# EAGLE library part MOLEX430450613 (library ACB)
Micro-Fit 3.0 Vertical Header 2x3 http://www.molex.com/molex/products/datasheet.jsp?part=active/0430450613_PCB_HEADERS.xml Hořa 7.6.2017
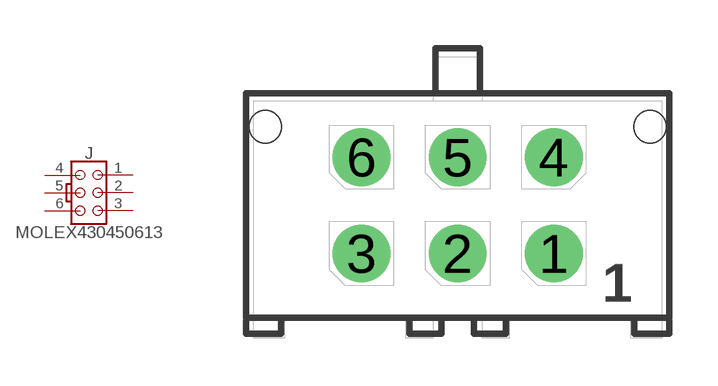
[diagram p2: symbol with the pads of MOLEX430450613; footprint MOLEX430450613]

Designator prefix J

## MOLEX430450613  [MOLEX430450613]
1  1
2  2
3  3
4  4
5  5
6  6

## Footprint MOLEX430450613 (pad centres in mm)
Micro-Fit 3.0 Vertical Header 2x3 http://www.molex.com/molex/products/datasheet.jsp?part=active/0430450613_PCB_HEADERS.xml Hořa 7.6.2017
drill 1.1 pad 1.8: 1 3,-1.5; 2 0,-1.5; 3 -3,-1.5; 4 3,1.5; 5 0,1.5; 6 -3,1.5
hole 1 at 6,2.45
hole 1 at -6,2.45